# EAGLE library part PJ-342B (library phono-jack)
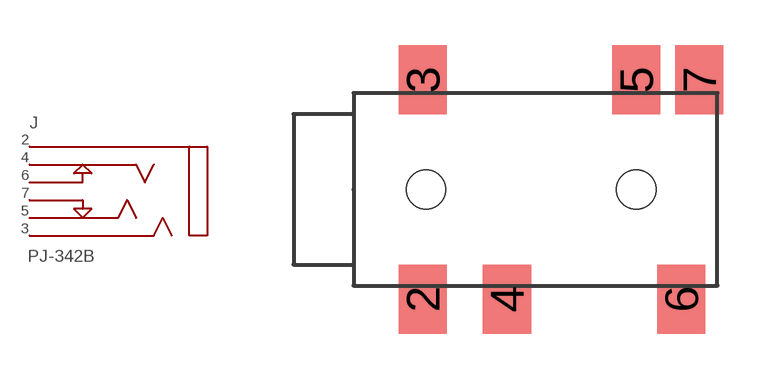
[diagram p0: symbol with the pads of PJ-342B; footprint PJ-342B]

Designator prefix J

## PJ-342B  [PJ-342B]
2  2
3  3
4  4
5  5
6  6
7  7

## Footprint PJ-342B (pad centres in mm)
smd 1.6 x 2.3: 2 2.3,-3.65; 3 2.3,3.65; 4 5.1,-3.65; 5 9.4,3.65; 6 10.9,-3.65; 7 11.5,3.65
hole 1.3 at 2.4,0
hole 1.3 at 9.4,0